# Altium schematic symbol library Schlib_jp.SchLib: 203 symbols (part 4 of 6)
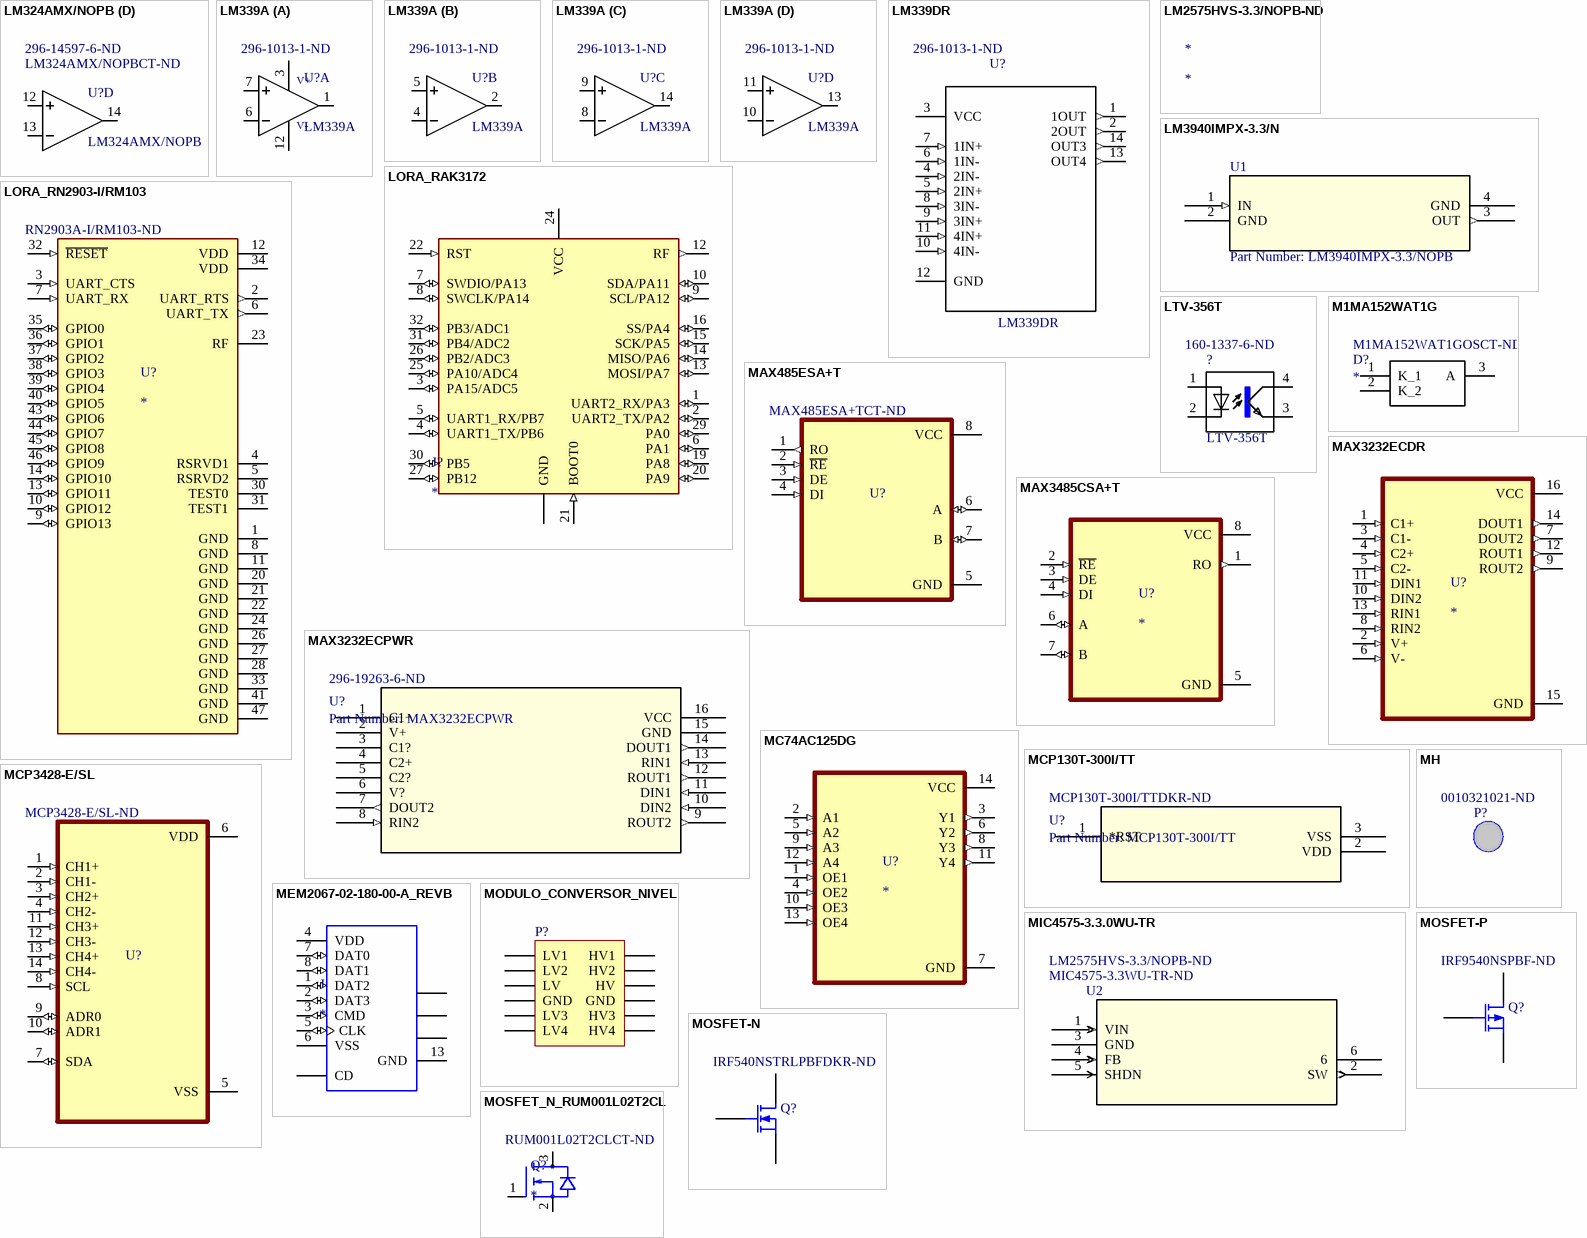
[diagram p11: symbols LM324AMX/NOPB to MOSFET_N_RUM001L02T2CL]

## LM324AMX/NOPB
designator U?  Supplier Part Number 1: LM324AMX/NOPBCT-ND  Supplier Part Number 2: 296-14597-6-ND
Low Power Quad Operational Amplifier 14-SOIC 0 to 70; Manufacturer: TI National Semiconductor; MF: Texas Instruments; Min Dual Supply Voltage: 1.5V; Slew Rate: 0.5V/µs; Min Supply Voltage: 3V; Max Supply Voltage: 32V; Max Dual Supply Voltage: 16V; Voltage Gain: 100dB; Max Power Dissipation: 800mW; Unity Gain Bandwidth Product: 1MHz; Common Mode Rejection Ratio: 65dB; Number of Channels: 4; Output Current: 40mA; Input Offset Voltage (Vos): 3mV; Input Bias Current: 100nA; Max Supply Current: 1.2mA; Nominal Supply Current: 1.5mA; Operating Supply Current: 1.4mA; Output Current per Channel: 60mA; Digi-Key_Purchase_URL: https://www.digikey.com/product-detail/en/texas-instruments/LM324AMX-NOPB/LM324AMX-NOPBCT-ND/1010531?utm_source=snapeda&utm_medium=aggregator&utm_campaign=symbol; Digi-Key_Part_Number: LM324AMX/NOPBCT-ND; MP: LM324AMX/NOPB; Package: SOIC-14 Texas Instruments; SnapEDA_Link: https://www.snapeda.com/parts/LM324AMX/NOPB/Texas%20Instruments/view-part/?ref=snap; Value: *; Supplier 1: Digi-Key; Manufacturer Part Number: LM324AMX/NOPB; Stock 1: 86609; Pricing 1: 1=1.05, 10=0.936, 100=0.7297, 500=0.60276, 1000=0.47586 (USD); Mount: Surface Mount; Case/Package: SOIC; Number of Pins: 14; Min Operating Temperature: 0°C; Max Operating Temperature: 70°C; Packaging: Tape and Reel; Operating Supply Voltage: 16V; Dual Supply Voltage: 3V; Bandwidth: 1MHz; Gain Bandwidth Product: 1MHz; Number of Amplifiers: 4; Power Supply Rejection Ratio (PSRR): 65dB; Number of Elements: 4; Power Dissipation: 800mW; Package Quantity: 2500; Number of Circuits: 4; Length: 8.64mm; Height: 1.45mm; Width: 3.91mm; Radiation Hardening: No; REACH SVHC: No SVHC; Lead Free: Lead Free; ComponentLink1URL: http://www.jameco.com/Jameco/Products/ProdDS/1267647.pdf?src-supplier=Jameco; ComponentLink1Description: http://www.jameco.com/Jameco/Products/ProdDS/1267647.pdf?src-supplier=Jameco; ComponentLink2URL: http://www.ti.com/lit/ds/symlink/lm124-n.pdf?src-supplier=Avnet; ComponentLink2Description: http://www.ti.com/lit/ds/symlink/lm124-n.pdf?src-supplier=Avnet; ComponentLink3URL: http://www.ti.com/lit/ds/symlink/lm124-n.pdf?src-supplier=Digi-Key; ComponentLink3Description: http://www.ti.com/lit/ds/symlink/lm124-n.pdf?src-supplier=Digi-Key; ComponentLink4URL: http://www.farnell.com/datasheets/2001690.pdf?src-supplier=Farnell; ComponentLink4Description: http://www.farnell.com/datasheets/2001690.pdf?src-supplier=Farnell; Supplier 2: Digi-Key; Stock 2: 13590; Pricing 2: 1=0.4, 10=0.302, 100=0.1483, 500=0.12854, 1000=0.09888 (USD); Contact Plating: Gold; ComponentLink5URL: http://www.ti.com/general/docs/lit/getliterature.tsp?genericPartNumber=LM124&&fileType=pdf&src-supplier=Avnet; ComponentLink5Description: http://www.ti.com/general/docs/lit/getliterature.tsp?genericPartNumber=LM124&&fileType=pdf&src-supplier=Avnet; ComponentLink6URL: http://www.farnell.com/datasheets/1840878.pdf?src-supplier=Element14; ComponentLink6Description: http://www.farnell.com/datasheets/1840878.pdf?src-supplier=Element14; ComponentLink7URL: http://www.farnell.com/datasheets/1877076.pdf?src-supplier=Element14; ComponentLink7Description: http://www.farnell.com/datasheets/1877076.pdf?src-supplier=Element14; ComponentLink8URL: http://www.ti.com/lit/ds/symlink/lm224.pdf?src-supplier=Digi-Key; ComponentLink8Description: http://www.ti.com/lit/ds/symlink/lm224.pdf?src-supplier=Digi-Key; ComponentLink9URL: http://www.jameco.com/Jameco/Products/ProdDS/902590.pdf?src-supplier=Jameco; ComponentLink9Description: http://www.jameco.com/Jameco/Products/ProdDS/902590.pdf?src-supplier=Jameco; ComponentLink10URL: http://www.farnell.com/datasheets/1768103.pdf?src-supplier=Farnell; ComponentLink10Description: http://www.farnell.com/datasheets/1768103.pdf?src-supplier=Farnell
footprint SOIC127P600X175-14N
part A pins: 1, 2, 3, 4 (power), 11 (power)
part B pins: 5, 6, 7
part C pins: 8, 9, 10
part D pins: 12, 13, 14
part A text: V+; V-

## LM339A
designator U?  Supplier Part Number 1: 296-1013-1-ND
Low Power Quad Operational Amplifier 14-SOIC 0 to 70; Manufacturer Part Number: LM339DR; MF: Texas Instruments; MP: LM324AMX/NOPB; Voltage Gain: 106.02dB; Min Supply Voltage: 2V; Max Supply Voltage: 30V; Min Dual Supply Voltage: 1V; Max Dual Supply Voltage: 15V; Nominal Supply Current: 2mA; Number of Elements: 4; Max Supply Current: 500uA; Input Bias Current: 250nA; Output Current per Channel: 6mA; Input Offset Voltage (Vos): 5mV; Response Time: 1.3us; Output Current: 20mA; Quiescent Current: 2.5mA; Output Type: TTL; Digi-Key_Purchase_URL: https://www.digikey.com/product-detail/en/texas-instruments/LM324AMX-NOPB/LM324AMX-NOPBCT-ND/1010531?utm_source=snapeda&utm_medium=aggregator&utm_campaign=symbol; Digi-Key_Part_Number: LM324AMX/NOPBCT-ND; Package: SOIC-14 Texas Instruments; SnapEDA_Link: https://www.snapeda.com/parts/LM324AMX/NOPB/Texas%20Instruments/view-part/?ref=snap; Value: *; Supplier 1: Digi-Key; Manufacturer: Texas Instruments; Stock 1: 19352; Pricing 1: 1=0.39, 10=0.295, 100=0.1452, 500=0.12586, 1000=0.09682 (USD); Mount: Surface Mount; Case/Package: SOIC; Number of Pins: 14; Weight: 0.004318oz; Contact Plating: Gold; Min Operating Temperature: 0°C; Max Operating Temperature: 70°C; Packaging: Tape and Reel; Package Quantity: 2500; Number of Channels: 4; Max Input Current: 250nA; Radiation Hardening: No; Lead Free: Lead Free; REACH SVHC: No SVHC; ComponentLink1URL: http://www.ti.com/lit/ds/symlink/lm139a.pdf?src-supplier=Avnet; ComponentLink1Description: http://www.ti.com/lit/ds/symlink/lm139a.pdf?src-supplier=Avnet; ComponentLink2URL: https://www.verical.com/server-webapp/html/getDatasheet?partID=242797&src-supplier=Verical; ComponentLink2Description: https://www.verical.com/server-webapp/html/getDatasheet?partID=242797&src-supplier=Verical; ComponentLink3URL: http://www.farnell.com/datasheets/1874704.pdf?src-supplier=Element14; ComponentLink3Description: http://www.farnell.com/datasheets/1874704.pdf?src-supplier=Element14; ComponentLink4URL: http://www.ti.com/general/docs/lit/getliterature.tsp?genericPartNumber=LM339&&fileType=pdf&src-supplier=Element14; ComponentLink4Description: http://www.ti.com/general/docs/lit/getliterature.tsp?genericPartNumber=LM339&&fileType=pdf&src-supplier=Element14; ComponentLink5URL: http://www.ti.com/lit/ds/symlink/lm139a.pdf?src-supplier=Digi-Key; ComponentLink5Description: http://www.ti.com/lit/ds/symlink/lm139a.pdf?src-supplier=Digi-Key; ComponentLink6URL: http://www.jameco.com/Jameco/Products/ProdDS/902741.pdf?src-supplier=Jameco; ComponentLink6Description: http://www.jameco.com/Jameco/Products/ProdDS/902741.pdf?src-supplier=Jameco; ComponentLink7URL: http://www.ti.com/general/docs/lit/getliterature.tsp?genericPartNumber=LM339&amp;&amp;fileType=pdf&src-supplier=Avnet+Asia; ComponentLink7Description: http://www.ti.com/general/docs/lit/getliterature.tsp?genericPartNumber=LM339&amp;&amp;fileType=pdf&src-supplier=Avnet+Asia; ComponentLink8URL: http://www.produktinfo.conrad.com/datenblaetter/1000000-1099999/001072944-da-01-en-IC_QUAD_DIFF_COMP_LM339DR_SOIC_14_TID.pdf?src-supplier=Conrad; ComponentLink8Description: http://www.produktinfo.conrad.com/datenblaetter/1000000-1099999/001072944-da-01-en-IC_QUAD_DIFF_COMP_LM339DR_SOIC_14_TID.pdf?src-supplier=Conrad
footprint SOIC127P600X175-14N
part A pins: 1, 3 (power), 6, 7, 12 (power)
part B pins: 2, 4, 5
part C pins: 8, 9, 14
part D pins: 10, 11, 13
part A text: V+; V-

## LM339DR
designator U?  Supplier Part Number 1: 296-1013-1-ND
Comparator; differential; 2Ã·36VDC; Channels: 4; SMD; SO1; MF: Texas Instruments; Voltage Gain: 106.02dB; Min Supply Voltage: 2V; Max Supply Voltage: 30V; Min Dual Supply Voltage: 1V; Max Dual Supply Voltage: 15V; Nominal Supply Current: 2mA; Number of Elements: 4; Max Supply Current: 500uA; Input Bias Current: 250nA; Output Current per Channel: 6mA; Input Offset Voltage (Vos): 5mV; Response Time: 1.3us; Output Current: 20mA; Quiescent Current: 2.5mA; Output Type: TTL; Digi-Key_Part_Number: LM339DRRS-ND; Digi-Key_Purchase_URL: https://www.digikey.com/product-detail/en/rohm-semiconductor/LM339DR/LM339DRRS-ND/2336957?utm_source=snapeda&utm_medium=aggregator&utm_campaign=symbol; Package: SOIC-14 Texas Instruments; MP: LM339DR; SnapEDA_Link: https://www.snapeda.com/parts/LM339DR/Texas%20Instruments/view-part/?ref=snap; Value: *; Supplier 1: Digi-Key; Manufacturer: Texas Instruments; Manufacturer Part Number: LM339DR; Stock 1: 19352; Pricing 1: 1=0.39, 10=0.295, 100=0.1452, 500=0.12586, 1000=0.09682 (USD); Mount: Surface Mount; Case/Package: SOIC; Number of Pins: 14; Weight: 0.004318oz; Contact Plating: Gold; Min Operating Temperature: 0°C; Max Operating Temperature: 70°C; Packaging: Tape and Reel; Package Quantity: 2500; Number of Channels: 4; Max Input Current: 250nA; Radiation Hardening: No; Lead Free: Lead Free; REACH SVHC: No SVHC; ComponentLink1URL: http://www.ti.com/lit/ds/symlink/lm139a.pdf?src-supplier=Avnet; ComponentLink1Description: http://www.ti.com/lit/ds/symlink/lm139a.pdf?src-supplier=Avnet; ComponentLink2URL: https://www.verical.com/server-webapp/html/getDatasheet?partID=242797&src-supplier=Verical; ComponentLink2Description: https://www.verical.com/server-webapp/html/getDatasheet?partID=242797&src-supplier=Verical; ComponentLink3URL: http://www.farnell.com/datasheets/1874704.pdf?src-supplier=Element14; ComponentLink3Description: http://www.farnell.com/datasheets/1874704.pdf?src-supplier=Element14; ComponentLink4URL: http://www.ti.com/general/docs/lit/getliterature.tsp?genericPartNumber=LM339&&fileType=pdf&src-supplier=Element14; ComponentLink4Description: http://www.ti.com/general/docs/lit/getliterature.tsp?genericPartNumber=LM339&&fileType=pdf&src-supplier=Element14; ComponentLink5URL: http://www.ti.com/lit/ds/symlink/lm139a.pdf?src-supplier=Digi-Key; ComponentLink5Description: http://www.ti.com/lit/ds/symlink/lm139a.pdf?src-supplier=Digi-Key; ComponentLink6URL: http://www.jameco.com/Jameco/Products/ProdDS/902741.pdf?src-supplier=Jameco; ComponentLink6Description: http://www.jameco.com/Jameco/Products/ProdDS/902741.pdf?src-supplier=Jameco; ComponentLink7URL: http://www.ti.com/general/docs/lit/getliterature.tsp?genericPartNumber=LM339&amp;&amp;fileType=pdf&src-supplier=Avnet+Asia; ComponentLink7Description: http://www.ti.com/general/docs/lit/getliterature.tsp?genericPartNumber=LM339&amp;&amp;fileType=pdf&src-supplier=Avnet+Asia; ComponentLink8URL: http://www.produktinfo.conrad.com/datenblaetter/1000000-1099999/001072944-da-01-en-IC_QUAD_DIFF_COMP_LM339DR_SOIC_14_TID.pdf?src-supplier=Conrad; ComponentLink8Description: http://www.produktinfo.conrad.com/datenblaetter/1000000-1099999/001072944-da-01-en-IC_QUAD_DIFF_COMP_LM339DR_SOIC_14_TID.pdf?src-supplier=Conrad
footprint SOIC127P600X175-14N
pins: 1 1OUT (out), 2 2OUT (out), 3 VCC (power), 4 2IN- (in), 5 2IN+ (in), 6 1IN- (in), 7 1IN+ (in), 8 3IN- (in), 9 3IN+ (in), 10 4IN- (in), 11 4IN+ (in), 12 GND, 13 OUT4 (out), 14 OUT3 (out)

## LM2575HVS-3.3/NOPB-ND
designator *

## LM3940IMPX-3.3/N
designator U1, comment Part Number: LM3940IMPX-3.3/NOPB
No Description Available; Vendor: Texas Instruments; Built_By: EMA_UL_Team; Manufacturer_Part_Number: LM3940IMPX-3.3/NOPB; Copyright: Copyright (C) 2018 Accelerated Designs. All rights reserved; RefDes: RefDes; Type: DEV; Value: Value
footprint MP04A
footprint MP04A-M
pins: 1 IN (in), 2 GND, 3 OUT (out), 4 GND

## LORA_RAK3172
designator J?
RAK3172 is a low-power long-range transceiver module based on the STM32WLE5CC chip. It provides an easy-to-use, small-size, low-power solution for long range wireless data applications; Value: RAK3172-9-SM-NI; MF: Shenzhen RAKwireless Technology Co.,Ltd.; SnapEDA_Link: https://www.snapeda.com/parts/RAK3172/Shenzhen+RAKwireless+Technology+Co.%252CLtd./view-part/?ref=snap; Availability: Not in stock; Price: None; Package: Package; Check_prices: https://www.snapeda.com/parts/RAK3172/Shenzhen+RAKwireless+Technology+Co.%252CLtd./view-part/?ref=eda; MP: RAK3172; Link: https://www.digikey.com/es/products/detail/rakwireless-technology-limited/RAK3172-9-SM-NI/17138034; Digi-Key_Part_Number: 4735-RAK3172-9-SM-NICT-ND; ComponentLink1Description: MODULE FOR LORAWAN RAK3172; ComponentLink1URL: https://www.digikey.com/es/products/detail/rakwireless-technology-limited/RAK3172-9-SM-NI/17138034?s=N4IgTCBcDaICwHYDMBWAtAJQIIGkkEYEw0BONAZQFk0A5ASQGEAVWgERAF0BfIA
footprint RAK3172
pins: 1 UART2_RX/PA3 (io), 2 UART2_TX/PA2 (io), 3 PA15/ADC5 (io), 4 UART1_TX/PB6 (io), 5 UART1_RX/PB7 (io), 6 PA1 (io), 7 SWDIO/PA13 (io), 8 SWCLK/PA14 (io), 9 SCL/PA12 (io), 10 SDA/PA11 (io), 11 GND (power), 12 RF (out), 13 MOSI/PA7 (io), 14 MISO/PA6 (io), 15 SCK/PA5 (io), 16 SS/PA4 (io), 17 GND (power), 18 GND (power), 19 PA8 (io), 20 PA9 (io), 21 BOOT0 (in), 22 RST (in), 23 GND (power), 24 VCC (power), 25 PA10/ADC4 (io), 26 PB2/ADC3 (io), 27 PB12 (io), 28 GND (power), 29 PA0 (io), 30 PB5 (io), 31 PB4/ADC2 (io), 32 PB3/ADC1 (io)

## LORA_RN2903-I/RM103
designator U?  Supplier Part Number 1: RN2903A-I/RM103-ND
ISM General < 1GHz LoRa™ Módulos de transceptor RF 902MHz ~ 928MHz Antena no incluida, Castellation Montaje en superficie; MF: Microchip; MP: RN2903-I/RM095; Availability: Unavailable; Price: None; Package: Module Microchip; Value: *; SnapEDA_Link: https://www.snapeda.com/parts/RN2903-I/RM095/Microchip/view-part/465037/?ref=snap; Supplier 1: Digi-Key; Link: https://www.digikey.com/es/products/detail/RN2903A-I-RM103/RN2903A-I-RM103-ND/8019733?utm_campaign=buynow&utm_medium=aggregator&curr=usd&utm_source=octopart; Digi_Key_Part_Number: RN2903A-I/RM103-ND; ComponentLink1Description: RF TXRX MOD ISM < 1GHZ CAST SMD; ComponentLink1URL: https://www.digikey.com/es/products/detail/RN2903A-I-RM103/RN2903A-I-RM103-ND/8019733?utm_campaign=buynow&utm_medium=aggregator&curr=usd&utm_source=octopart
footprint XCVR_RN2903-I/RM103
pins: 1 GND (power), 2 UART_RTS (out), 3 UART_CTS (in), 4 RSRVD1, 5 RSRVD2, 6 UART_TX (out), 7 UART_RX (in), 8 GND (power), 9 GPIO13 (io), 10 GPIO12 (io), 11 GND (power), 12 VDD (power), 13 GPIO11 (io), 14 GPIO10 (io), 20 GND (power), 21 GND (power), 22 GND (power), 23 RF, 24 GND (power), 26 GND (power), 27 GND (power), 28 GND (power), 30 TEST0, 31 TEST1, 32 ~{RESET} (in), 33 GND (power), 34 VDD (power), 35 GPIO0 (io), 36 GPIO1 (io), 37 GPIO2 (io), 38 GPIO3 (io), 39 GPIO4 (io), 40 GPIO5 (io), 41 GND (power), 43 GPIO6 (io), 44 GPIO7 (io), 45 GPIO8 (io), 46 GPIO9 (io), 47 GND (power)

## LTV-356T
designator ?  Supplier Part Number 1: 160-1337-6-ND
LTV Series Single Channel 80 V 3750 Vrms Transistor Output Optocoupler SMT DIP-4; Manufacturer: Vishay Lite-On; MF: Lite-On Inc.; Rise Time: 18000ns; Number of Channels: 1; Reverse Breakdown Voltage: 6V; Forward Voltage: 1.4V; Forward Current: 50mA; Max Power Dissipation: 170mW; Collector Emitter Voltage (VCEO): 80V; Collector Emitter Saturation Voltage: 200mV; Isolation Voltage: 3.75kV; Current Transfer Ratio: 600%; Package: SOP-4 Lite-On Inc.; MP: LTV-356T; SnapEDA_Link: https://www.snapeda.com/parts/LTV-356T/Lite-On%20Inc./view-part/?ref=snap; Price: None; Availability: Unavailable; Value: *; Supplier 1: Digi-Key; Manufacturer Part Number: LTV-356T; Stock 1: 158683; Pricing 1: 1=0.54, 10=0.386, 100=0.252, 500=0.18112, 1000=0.14175 (USD); Mount: Surface Mount; Case/Package: SMD/SMT; Number of Pins: 4; Min Operating Temperature: -55°C; Max Operating Temperature: 110°C; Packaging: Tape and Reel; Package Quantity: 750; Max Collector Current: 50mA; Max Output Voltage: 80V; Output Current per Channel: 50mA; Max Input Current: 50mA; Fall Time: 18000ns; Number of Elements: 1; Power Dissipation: 170mW; Number of Circuits: 1; Output Voltage: 80V; Length: 3.6mm; Height: 2mm; Width: 4.4mm; Radiation Hardening: No; Lead Free: Lead Free; ComponentLink1URL: http://uk.rs-online.com/webdocs/0de6/0900766b80de6af0.pdf?src-supplier=RSComponents; ComponentLink1Description: http://uk.rs-online.com/webdocs/0de6/0900766b80de6af0.pdf?src-supplier=RSComponents; ComponentLink2URL: http://www.mouser.com/ds/2/239/LTV-356T%20Series-1308-301539.pdf?src-supplier=Mouser; ComponentLink2Description: http://www.mouser.com/ds/2/239/LTV-356T%20Series-1308-301539.pdf?src-supplier=Mouser; ComponentLink3URL: http://optoelectronics.liteon.com/upload/download/DS70-2001-010/LTV-356T%20series%20201610.pdf?src-supplier=Digi-Key; ComponentLink3Description: http://optoelectronics.liteon.com/upload/download/DS70-2001-010/LTV-356T%20series%20201610.pdf?src-supplier=Digi-Key; ComponentLink4URL: http://www1.futureelectronics.com/doc/LITE-ON/LTV-356T.pdf?src-supplier=Future+Electronics; ComponentLink4Description: http://www1.futureelectronics.com/doc/LITE-ON/LTV-356T.pdf?src-supplier=Future+Electronics; ComponentLink5URL: https://www.verical.com/server-webapp/html/getDatasheet?partID=214494&src-supplier=Verical; ComponentLink5Description: https://www.verical.com/server-webapp/html/getDatasheet?partID=214494&src-supplier=Verical
footprint MINI-FLAT-4
pins: 1, 2, 3, 4

## M1MA152WAT1G
designator D?  Supplier Part Number 1: M1MA152WAT1GOSCT-ND
Diode; Manufacturer_Name: ON Semiconductor; Manufacturer_Part_Number: M1MA152WAT1G; Datasheet Link: http://www.onsemi.com/pub/Collateral/M1MA151WAT1-D.PDF; Height: 1.3mm; Mouser Part Number: 863-M1MA152WAT1G; Mouser Price/Stock: https://www.mouser.com/Search/Refine.aspx?Keyword=863-M1MA152WAT1G; Arrow Part Number: M1MA152WAT1G; Arrow Price/Stock: https://www.arrow.com/en/products/m1ma152wat1g/on-semiconductor; Supplier 1: Digi-Key
footprint SOT95P275X130-3N
footprint SOT95P275X130-3N
pins: 1 K_1, 2 K_2, 3 A

## MAX485ESA+T
designator U?, comment MAX485ESA+TCT-ND
1/1 Transceiver Half RS422, RS485 8-SOIC; MF: Maxim Integrated; MP: MAX485ESA; SnapEDA_Link: https://www.snapeda.com/parts/MAX485ESA/Maxim+Integrated/view-part/?ref=snap; Purchase-URL: https://pricing.snapeda.com/search/part/MAX485ESA/?ref=eda; Value: *; Package: SOIC-8 Maxim; Price: None; Availability: In Stock; Check_prices: https://www.snapeda.com/parts/MAX485ESA/Maxim+Integrated/view-part/?ref=eda; Supplier 1: Digi-Key; Supplier Part Number 1: MAX485ESA+TCT-ND
footprint SOIC127P600X175-8N
pins: 1 RO (out), 2 ~{RE} (in), 3 DE (in), 4 DI (in), 5 GND (power), 6 A (io), 7 B (io), 8 VCC (power)

## MAX3232ECDR
designator U?
3-V to 5.5-V multichannel RS-232 line driver and receiver with 15-kV IEC ESD protection 16-SOIC 0 to 70; MP: MAX3232ECD; Value: MAX3232ECDR; MF: Texas Instruments; Price: None; Package: SOIC-16 Texas Instruments; Check_prices: https://www.snapeda.com/parts/MAX3232ECD/Texas%20Instruments/view-part/356768/?ref=eda; Availability: Good; Purchase-URL: https://pricing.snapeda.com/search/part/MAX3232ECD/?ref=eda; SnapEDA_Link: https://www.snapeda.com/parts/MAX3232ECD/Texas%20Instruments/view-part/356768/?ref=snap; Supplier 1: Digi-Key; ComponentLink1Description: MAX3232ECDR; ComponentLink1URL: https://www.digikey.com/es/products/detail/texas-instruments/MAX3232ECDR/1120543; Digi-Key_Part_Number: 296-19851-1-ND; Link: https://www.digikey.com/es/products/detail/texas-instruments/MAX3232ECDR/1120543; Supplier Part Number 1: 296-26154-5-ND
footprint SOIC127P600X175-16N
pins: 1 C1+ (in), 2 V+ (in), 3 C1- (in), 4 C2+ (in), 5 C2- (in), 6 V- (in), 7 DOUT2 (out), 8 RIN2 (in), 9 ROUT2 (out), 10 DIN2 (in), 11 DIN1 (in), 12 ROUT1 (out), 13 RIN1 (in), 14 DOUT1 (out), 15 GND (power), 16 VCC (power)

## MAX3232ECPWR
designator U?, comment Part Number: MAX3232ECPWR  Supplier Part Number 1: 296-19263-6-ND
No Description Available; Vendor: Texas Instruments; Built_By: EMA_UL_Team; Number of Receivers: 2; Data Rate: 250Kbps; Max Supply Voltage: 5.5V; Min Supply Voltage: 3V; Nominal Supply Current: 1mA; Logic Function: Transceiver,Receiver; Number of Transceivers: 1; Simplex/Duplex: Full Duplex; ESD Protection: Yes; Supply Type: Single; Operating Supply Voltage: 5V; Manufacturer_Part_Number: MAX3232ECPWR; Copyright: Copyright (C) 2018 Accelerated Designs. All rights reserved; RefDes: RefDes; Type: DEV; Value: Value; Supplier 1: Digi-Key; Manufacturer: Texas Instruments; Manufacturer Part Number: MAX3232ECPWR; Stock 1: 12028; Pricing 1: 1=1.89, 10=1.695, 100=1.2793, 500=1.08738, 1000=0.8635 (USD); Mount: Surface Mount; Case/Package: TSSOP; Number of Pins: 16; Weight: 0.002183oz; Contact Plating: Gold; Min Operating Temperature: -40°C; Max Operating Temperature: 85°C; Packaging: Tape and Reel; Number of Transmitters: 2; Package Quantity: 1; Number of Drivers: 2; Operating Supply Current: 1mA; Max Supply Current: 1mA; Length: 5mm; Height: 1mm; Width: 4.4mm; Radiation Hardening: No; REACH SVHC: No SVHC; Lead Free: Lead Free; ComponentLink1URL: http://www.ti.com/lit/ds/symlink/max3232e.pdf?src-supplier=Digi-Key; ComponentLink1Description: http://www.ti.com/lit/ds/symlink/max3232e.pdf?src-supplier=Digi-Key; ComponentLink2URL: http://www.farnell.com/datasheets/1863621.pdf?src-supplier=Element14; ComponentLink2Description: http://www.farnell.com/datasheets/1863621.pdf?src-supplier=Element14; ComponentLink3URL: http://www.farnell.com/datasheets/1962287.pdf?src-supplier=Element14; ComponentLink3Description: http://www.farnell.com/datasheets/1962287.pdf?src-supplier=Element14; ComponentLink4URL: http://www.ti.com/general/docs/lit/getliterature.tsp?genericPartNumber=MAX3232E&fileType=pdf&src-supplier=Newark; ComponentLink4Description: http://www.ti.com/general/docs/lit/getliterature.tsp?genericPartNumber=MAX3232E&fileType=pdf&src-supplier=Newark
footprint PW16
footprint RS232PW16-M
pins: 1 C1+, 2 V+, 3 C1? (power), 4 C2+, 5 C2?, 6 V? (power), 7 DOUT2 (out), 8 RIN2 (in), 9 ROUT2 (out), 10 DIN2 (in), 11 DIN1 (in), 12 ROUT1 (out), 13 RIN1 (in), 14 DOUT1 (out), 15 GND (power), 16 VCC (power)

## MAX3485CSA+T
designator U?
1/1 Transceiver Half RS422, RS485 8-SOIC; MF: Maxim Integrated; MP: MAX3485CSA+T; Value: *; Package: SOIC-8 Maxim; Digi-Key_Part_Number: MAX3485CSA+CT-ND; Digi-Key_Purchase_URL: https://www.digikey.com/product-detail/en/maxim-integrated/MAX3485CSA-T/MAX3485CSA-CT-ND/5405739?utm_source=snapeda&utm_medium=aggregator&utm_campaign=symbol; SnapEDA_Link: https://www.snapeda.com/parts/MAX3485CSA+T/Maxim%20Integrated/view-part/648590/?ref=snap; ComponentLink1Description: IC TRANSCEIVER HALF 1/1 8SOIC; ComponentLink1URL: https://www.digikey.com/es/products/detail/analog-devices-inc-maxim-integrated/MAX3485CSA-T/1703654; Link: https://www.digikey.com/es/products/detail/analog-devices-inc-maxim-integrated/MAX3485CSA-T/1703654
footprint SOIC127P600X175-8N
pins: 1 RO (out), 2 ~{RE} (in), 3 DE (in), 4 DI (in), 5 GND (power), 6 A (io), 7 B (io), 8 VCC (power)

## MC74AC125DG
designator U?
Buffer, Non-Inverting 4 Element 1 Bit per Element 3-State Output 14-SOIC; Value: MC74AC125DG; MF: ON Semiconductor; MP: MC74HC125ADG; Availability: Good; Price: None; Purchase-URL: https://pricing.snapeda.com/search/part/MC74HC125ADG/?ref=eda; Package: SOIC-14 ON Semiconductor; SnapEDA_Link: https://www.snapeda.com/parts/MC74HC125ADG/ON%20Semiconductor/view-part/358662/?ref=snap; ComponentLink1Description: MC74AC125DG; ComponentLink1URL: https://www.digikey.com/es/products/detail/MC74AC125DG/MC74AC125DGOS-ND/1479360?utm_campaign=buynow&utm_medium=aggregator&curr=usd&utm_source=octopart; Link: https://www.digikey.com/es/products/detail/MC74AC125DG/MC74AC125DGOS-ND/1479360?utm_campaign=buynow&utm_medium=aggregator&curr=usd&utm_source=octopart; Digi-Key_Part_Number: MC74AC125DGOS-ND
footprint SOIC127P600X175-14N
pins: 1 OE1 (in), 2 A1 (in), 3 Y1 (out), 4 OE2 (in), 5 A2 (in), 6 Y2 (out), 7 GND (power), 8 Y3 (out), 9 A3 (in), 10 OE3 (in), 11 Y4 (out), 12 A4 (in), 13 OE4 (in), 14 VCC (power)

## MCP130T-300I/TT
designator U?, comment Part Number: MCP130T-300I/TT  Supplier Part Number 1: MCP130T-300I/TTDKR-ND
Resets microcontroller during power lossble; Vendor: Microchip; Built_By: EMA_Jessica; Min Supply Voltage: 1V; Max Supply Voltage: 5.5V; Nominal Supply Current: 45uA; Number of Voltages Monitored: 1; Overvoltage Threshold: 3V; Undervoltage Threshold: 2.85V; Operating Supply Current: 60uA; Reset: Active Low; Reset Timeout: 150ms; Accuracy: -5%; Watchdog Timer: No; Manufacturer_Part_Number: MCP130T-300I/TT; Copyright: Copyright (C) 2018 Accelerated Designs. All rights reserved; RefDes: RefDes; Type: DEV; Value: Value; Supplier 1: Digi-Key; Manufacturer: Microchip; Manufacturer Part Number: MCP130T-300I/TT; Stock 1: 10211; Pricing 1: 1=0.45, 25=0.37, 100=0.34 (USD); Mount: Surface Mount; Case/Package: SOT-23; Number of Pins: 3; Min Operating Temperature: -40°C; Max Operating Temperature: 85°C; Packaging: Tape and Reel; Package Quantity: 1; Threshold Voltage: 3V; Number of Elements: 1; Max Supply Current: 60uA; Termination: SMD/SMT; Max Reset Threshold Voltage: 3V; Min Reset Threshold Voltage: 2.85V; Quiescent Current: 45uA; Voltage: 3V; Length: 2.9mm; Height: 0.95mm; Width: 1.3mm; Radiation Hardening: No; REACH SVHC: No SVHC; Lead Free: Lead Free; ComponentLink1URL: https://www.alliedelec.com/m/d/4f6df3a49527f5f24303fd42bf5f8804.pdf?src-supplier=Allied+Electronics; ComponentLink1Description: https://www.alliedelec.com/m/d/4f6df3a49527f5f24303fd42bf5f8804.pdf?src-supplier=Allied+Electronics; ComponentLink2URL: http://www.farnell.com/datasheets/11603.pdf?src-supplier=Element14; ComponentLink2Description: http://www.farnell.com/datasheets/11603.pdf?src-supplier=Element14; ComponentLink3URL: http://www.microchip.com/mymicrochip/filehandler.aspx?ddocname=en011325&src-supplier=Digi-Key; ComponentLink3Description: http://www.microchip.com/mymicrochip/filehandler.aspx?ddocname=en011325&src-supplier=Digi-Key; ComponentLink4URL: http://ww1.microchip.com/downloads/jp/DeviceDoc/11184d.pdf?src-supplier=Avnet+Europe; ComponentLink4Description: http://ww1.microchip.com/downloads/jp/DeviceDoc/11184d.pdf?src-supplier=Avnet+Europe; ComponentLink5URL: http://www.microchip.com/mymicrochip/filehandler.aspx?ddocname=en023833&src-supplier=Digi-Key; ComponentLink5Description: http://www.microchip.com/mymicrochip/filehandler.aspx?ddocname=en023833&src-supplier=Digi-Key; ComponentLink6URL: http://ww1.microchip.com/downloads/jp/DeviceDoc/11184d.pdf?src-supplier=Avnet; ComponentLink6Description: http://ww1.microchip.com/downloads/jp/DeviceDoc/11184d.pdf?src-supplier=Avnet; ComponentLink7URL: https://www.distrelec.biz/Web/Downloads/_t/ds/mcp120_30_eng_tds.pdf?mime=application%2Fpdf&src-supplier=Distrelec; ComponentLink7Description: https://www.distrelec.biz/Web/Downloads/_t/ds/mcp120_30_eng_tds.pdf?mime=application%2Fpdf&src-supplier=Distrelec; ComponentLink8URL: http://datasheet.iiic.cc/microchip_technology/MCP130T-300I_TT.pdf?src-supplier=IIIC; ComponentLink8Description: http://datasheet.iiic.cc/microchip_technology/MCP130T-300I_TT.pdf?src-supplier=IIIC
footprint SOT-23_MC-M
pins: 1 *RST, 2 VDD, 3 VSS

## MCP3428-E/SL
designator U?, comment MCP3428-E/SL-ND
16 Bit Analog to Digital Converter 4 Input 1 Sigma-Delta 14-SOIC; MF: Microchip; Package: SOIC-14 Microchip; SnapEDA_Link: https://www.snapeda.com/parts/MCP3428-E/SL/Microchip/view-part/13249/?ref=snap; MP: MCP3428-E/SL; Price: None; Availability: Unavailable; Value: MCP3428-E/SL; Supplier 1: Digi-Key; Link: https://www.digikey.com/es/products/detail/MCP3428-E-SL/MCP3428-E-SL-ND/2179226?utm_campaign=buynow&utm_medium=aggregator&curr=usd&utm_source=octopart; Digi_Key_Part_Number: MCP3428-E/SL-ND; ComponentLink1Description: IC ADC 16BIT SIGMA-DELTA 14SOIC; ComponentLink1URL: https://www.digikey.com/es/products/detail/microchip-technology/mcp3428-e-sl/2179226; Supplier Part Number 1: MCP3428-E/SL-ND
footprint SOIC127P600X175-14N
pins: 1 CH1+ (in), 2 CH1- (in), 3 CH2+ (in), 4 CH2- (in), 5 VSS (power), 6 VDD (power), 7 SDA (io), 8 SCL (in), 9 ADR0 (io), 10 ADR1 (io), 11 CH3+ (in), 12 CH3- (in), 13 CH4+ (in), 14 CH4- (in)

## MEM2067-02-180-00-A_REVB
designator J
8 Position Card Connector microSDâ„¢ Surface Mount, Right Angle Gold; MF: Global Connector Technology; MP: MEM2067-02-180-00-A; Package: None; Value: *; Price: None; SnapEDA_Link: https://www.snapeda.com/parts/MEM2067-02-180-00-A/Global%20Connector%20Technology/view-part/779218/?ref=snap; Availability: Unavailable
footprint 7MSDP-B0-1012 (Micro SD Card Socket)
pins: 1 DAT2 (io), 2 DAT3 (io), 3 CMD (io), 4 VDD (power), 5 CLK (io), 6 VSS (power), 7 DAT0 (io), 8 DAT1 (io), 9 CD, 10 GND, 11 GND, 12 GND, 13 GND

## MH
designator P?  Supplier Part Number 1: 0010321021-ND
Header, 2-Pin; Manufacturer: Molex; Number of Positions: 2; Max Voltage Rating (AC): 250V; Connector Type: Male Pin; Contact Resistance: 10mR; Gender: Male; Pitch: 5.08mm; LatestRevisionDate: 17-Jul-2002; LatestRevisionNote: Re-released for DXP Platform.; Publisher: Altium Limited; Supplier 1: Digi-Key; Manufacturer Part Number: 10-32-1021; Stock 1: 0; Mount: Through Hole; Color: Natural; Housing Color: Natural; Housing Material: Nylon; Contact Plating: Tin; Contact Material: Brass; Min Operating Temperature: -40°C; Max Operating Temperature: 105°C; Number of Rows: 1; Packaging: Bulk; Fastening Type: Friction; Termination: Solder; Orientation: Straight; Number of Contacts: 2; Length: 9.08mm; Depth: 11.4mm; Contact Mating Length: 0.419inch; ComponentLink1URL: http://www.mouser.com/ds/2/276/0010321021_PCB_HEADERS-131538.pdf?src-supplier=Mouser; ComponentLink1Description: http://www.mouser.com/ds/2/276/0010321021_PCB_HEADERS-131538.pdf?src-supplier=Mouser; ComponentLink2URL: http://uk.rs-online.com/webdocs/13c2/0900766b813c2c21.pdf?src-supplier=RSComponents; ComponentLink2Description: http://uk.rs-online.com/webdocs/13c2/0900766b813c2c21.pdf?src-supplier=RSComponents; ComponentLink3URL: https://www.molex.com/pdm_docs/sd/010321021_sd.pdf?src-supplier=Digi-Key; ComponentLink3Description: https://www.molex.com/pdm_docs/sd/010321021_sd.pdf?src-supplier=Digi-Key; ComponentLink4URL: http://www.molex.com/webdocs/datasheets/pdf/en-us/0010321021_PCB_HEADERS.pdf?src-supplier=Avnet+Europe; ComponentLink4Description: http://www.molex.com/webdocs/datasheets/pdf/en-us/0010321021_PCB_HEADERS.pdf?src-supplier=Avnet+Europe; ComponentLink5URL: http://www.molex.com/webdocs/datasheets/pdf/en-us/0010321021_PCB_HEADERS.pdf?src-supplier=Avnet; ComponentLink5Description: http://www.molex.com/webdocs/datasheets/pdf/en-us/0010321021_PCB_HEADERS.pdf?src-supplier=Avnet
footprint MH

## MIC4575-3.3.0WU-TR
designator U2, comment Supplier Part Number 2: LM2575HVS-3.3/NOPB-ND  (hidden comment: MIC4575-3.3WU-TR-ND)
Buck, Buck-Boost Switching Regulator IC Positive Fixed 3.3V 1 Output 1.7A (Switch) TO-263-6, D²Pak (5 Leads + Tab), TO-263BA; Manufacturer_Part_Number: MIC4575-5.0WU-TR; Manufacturer: Microchip Micrel; Vendor: Microchip; Built_By: EMA_Jessica; Output Voltage: 5V; Max Output Current: 1A; Number of Outputs: 1; Efficiency: 77%; Min Input Voltage: 4V; Max Input Voltage: 24V; Switching Frequency: 200kHz; Synchronous Rectifier: No; Copyright: Copyright (C) 2018 Accelerated Designs. All rights reserved; RefDes: RefDes; Type: DEV; Value: Value; Manufacturer Part Number: MIC4575-5.0WU-TR; Mount: Surface Mount; Case/Package: TO-263-5; Min Operating Temperature: -40°C; Max Operating Temperature: 85°C; Packaging: Tape and Reel; Package Quantity: 750; Output Current: 1.7A; Min Output Voltage: 5V; Topology: Buck-Boost; Output Type: Fixed; Output Configuration: Positive; Lead Free: Lead Free; ComponentLink1URL: http://www.micrel.com/_PDF/mic4575.pdf?src-supplier=Future+Electronics; ComponentLink1Description: http://www.micrel.com/_PDF/mic4575.pdf?src-supplier=Future+Electronics; ComponentLink2URL: http://www.micrel.com/_PDF/mic4575.pdf?src-supplier=Digi-Key; ComponentLink2Description: http://www.micrel.com/_PDF/mic4575.pdf?src-supplier=Digi-Key; Supplier 1: Digi-Key; Supplier 2: Digi-Key; Supplier Part Number 1: MIC4575-3.3WU-TR-ND
footprint TO-263-5-M
pins: 1 VIN (in), 2 SW (out), 3 GND (power), 4 FB (in), 5 SHDN, 6

## MODULO_CONVERSOR_NIVEL
designator P?
Header, 6-Pin, Dual row; LatestRevisionDate: 17-Jul-2002; LatestRevisionNote: Re-released for DXP Platform.; Publisher: Altium Limited
footprint HDR2X6_CONVERTER (Arduino Level Convertr)
pins: 1 LV1, 2 LV2, 3 LV, 4 GND, 5 LV3, 6 LV4, 7 HV1, 8 HV2, 9 HV, 10 GND, 11 HV3, 12 HV4

## MOSFET-N
designator Q?  Supplier Part Number 1: IRF540NSTRLPBFDKR-ND
Canal N Montaje en superficie 100V 33 A (Tc) 130W (Tc) D2PAK; Manufacturer: Infineon; Manufacturer Part Number: IRF540NSTRLPBF; Continuous Drain Current (ID): 33A; Gate to Source Voltage (Vgs): 20V; Rds On Max: 44mR; Input Capacitance: 1.96nF; Rise Time: 35ns; Element Configuration: Single; Turn-Off Delay Time: 39ns; Turn-On Delay Time: 11ns; Threshold Voltage: 4V; Published: 8-Jun-2000; LatestRevisionDate: 17-Jul-2002; LatestRevisionNote: Re-released for DXP Platform.; PackageVersion: 1995/1996; PackageReference: E3; Publisher: Altium Limited; PackageDescription: TO, Flat Index; 3 In-Line, Axial Leads; Body Dia. 4.6mm; Lead Dia. 0.5 mm (max); Supplier 1: Digi-Key; Stock 1: 8495; Pricing 1: 1=1.37, 10=1.223, 100=0.8706 (USD); Mount: Surface Mount; Case/Package: D2PAK; Number of Pins: 3; Contact Plating: Tin,Matte; Min Operating Temperature: -55°C; Max Operating Temperature: 175°C; Power Dissipation: 130W; Packaging: Tape and Reel; Drain to Source Voltage (Vdss): 100V; Max Power Dissipation: 130W; Drain to Source Resistance: 44mR; Drain to Source Breakdown Voltage: 100V; Max Dual Supply Voltage: 100V; Length: 0.42inch; Height: 0.19inch; Width: 0.38inch; REACH SVHC: No SVHC; Lead Free: Contains Lead; Halogen Free: Halogen Free
footprint TO263 - mosfet
pins: 1, 2, 3

## MOSFET-P
designator Q?  Supplier Part Number 1: IRF9540NSPBF-ND
P-Channel MOSFET; Manufacturer: International Rectifier; Manufacturer Part Number: IRF9540NSTRLPBF; Continuous Drain Current (ID): 23A; Rise Time: 67ns; Max Power Dissipation: 3.1W; Gate to Source Voltage (Vgs): 20V; Drain to Source Voltage (Vdss): 100V; Turn-On Delay Time: 13ns; Turn-Off Delay Time: 40ns; Number of Elements: 1; Power Dissipation: 3.8W; Drain to Source Resistance: 117mR; Fall Time: 51ns; Drain to Source Breakdown Voltage: -100V; Nominal Vgs: 4V; Input Capacitance: 1.45nF; Element Configuration: Single; Published: 8-Jun-2000; LatestRevisionDate: 17-Jul-2002; LatestRevisionNote: Re-released for DXP Platform.; PackageVersion: 1995/1996; PackageReference: E3; Publisher: Altium Limited; PackageDescription: TO, Flat Index; 3 In-Line, Axial Leads; Body Dia. 4.6mm; Lead Dia. 0.5 mm (max); Supplier 1: Digi-Key; Stock 1: 0; Pricing 1: 1=1.86, 10=1.645, 100=1.3003, 500=1.00838, 1000=0.79609 (USD); Mount: Surface Mount; Case/Package: D2PAK; Number of Pins: 3; Min Operating Temperature: -55°C; Max Operating Temperature: 175°C; Packaging: Tape and Reel; Package Quantity: 1; Rds On Max: 117mR; Dual Supply Voltage: 100V; Termination: SMD/SMT; Threshold Voltage: 4V; On-State Resistance: 117mR; Length: 10.67mm; Height: 4.83mm; Width: 9.65mm; Radiation Hardening: No; REACH SVHC: No SVHC; Lead Free: Lead Free; ComponentLink1URL: https://www.infineon.com/dgdl/irf9540nspbf.pdf?fileId=5546d462533600a401535611d92a1dca&src-supplier=Digi-Key; ComponentLink1Description: https://www.infineon.com/dgdl/irf9540nspbf.pdf?fileId=5546d462533600a401535611d92a1dca&src-supplier=Digi-Key; ComponentLink2URL: http://www.irf.com/product-info/datasheets/data/irf9540ns.pdf?src-supplier=Element14; ComponentLink2Description: http://www.irf.com/product-info/datasheets/data/irf9540ns.pdf?src-supplier=Element14; ComponentLink3URL: http://www.irf.com/product-info/datasheets/data/irf9540nspbf.pdf?src-supplier=Digi-Key; ComponentLink3Description: http://www.irf.com/product-info/datasheets/data/irf9540nspbf.pdf?src-supplier=Digi-Key
footprint TO263 - mosfet
pins: 1, 2, 3

## MOSFET_N_RUM001L02T2CL
designator Q?  Supplier Part Number 1: RUM001L02T2CLCT-ND
N-Channel 20V 100mA _Ta_ 150mW _Ta_ Surface Mount VMT3; Value: RUM001L02T2CL; MF: Rohm; SnapEDA_Link: https://www.snapeda.com/parts/RUM001L02T2CL/Rohm/view-part/531428/?ref=snap; Digi-Key_Part_Number: RUM001L02T2CLCT-ND; Package: SOT-723 Rohm; MP: RUM001L02T2CL; Supplier 1: Digi-Key; Link: https://www.digikey.com/es/products/detail/RUM001L02T2CL/RUM001L02T2CLCT-ND/4571412?utm_campaign=buynow&utm_medium=aggregator&curr=usd&utm_source=octopart; ComponentLink1Description: MOSFET N-CH 20V 100MA VMT3; ComponentLink1URL: https://www.digikey.com/es/products/detail/rohm-semiconductor/RUM001L02T2CL/4004581?s=N4IgTCBcDaIEoFUCyAGFBGAMisAVMAwpiALoC%2BQA
footprint SOTFL3P40_120X120X55L30X32N
pins: 1 G, 2 S, 3 D

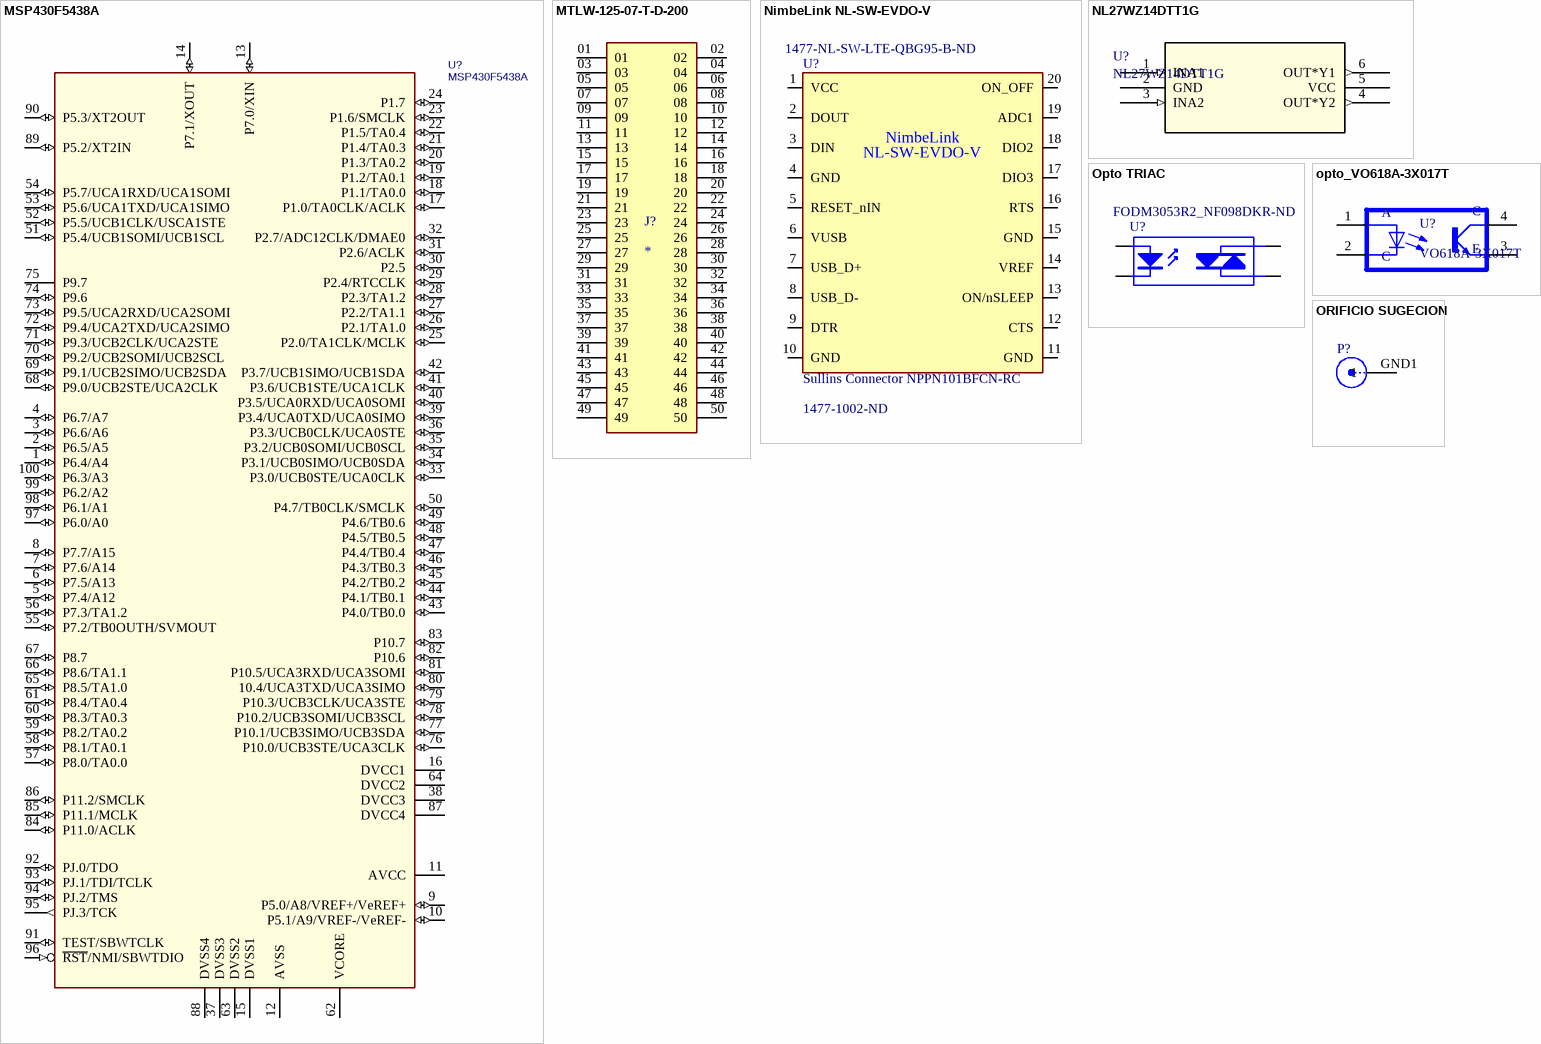
[diagram p5: symbols MSP430F5438A to ORIFICIO SUGECION]

## MSP430F5438A
designator U?
Value: MSP430F5438A; Supplier 1: Digi-Key; Supplier Part Number 1: 296-30513-5-ND
footprint QUAD.50M/100/WG16.00_VQFP100
footprint QUAD.50M/100/WG16.00_VQFP100
pins: 1 P6.4/A4 (io), 2 P6.5/A5 (io), 3 P6.6/A6 (io), 4 P6.7/A7 (io), 5 P7.4/A12 (io), 6 P7.5/A13 (io), 7 P7.6/A14 (io), 8 P7.7/A15 (io), 9 P5.0/A8/VREF+/VeREF+ (io), 10 P5.1/A9/VREF-/VeREF- (io), 11 AVCC (power), 12 AVSS (power), 13 P7.0/XIN (io), 14 P7.1/XOUT (io), 15 DVSS1 (power), 16 DVCC1 (power), 17 P1.0/TA0CLK/ACLK (io), 18 P1.1/TA0.0 (io), 19 P1.2/TA0.1 (io), 20 P1.3/TA0.2 (io), 21 P1.4/TA0.3 (io), 22 P1.5/TA0.4 (io), 23 P1.6/SMCLK (io), 24 P1.7 (io), 25 P2.0/TA1CLK/MCLK (io), 26 P2.1/TA1.0 (io), 27 P2.2/TA1.1 (io), 28 P2.3/TA1.2 (io), 29 P2.4/RTCCLK (io), 30 P2.5 (io), 31 P2.6/ACLK (io), 32 P2.7/ADC12CLK/DMAE0 (io), 33 P3.0/UCB0STE/UCA0CLK (io), 34 P3.1/UCB0SIMO/UCB0SDA (io), 35 P3.2/UCB0SOMI/UCB0SCL (io), 36 P3.3/UCB0CLK/UCA0STE (io), 37 DVSS3 (power), 38 DVCC3 (power), 39 P3.4/UCA0TXD/UCA0SIMO (io), 40 P3.5/UCA0RXD/UCA0SOMI (io), 41 P3.6/UCB1STE/UCA1CLK (io), 42 P3.7/UCB1SIMO/UCB1SDA (io), 43 P4.0/TB0.0 (io), 44 P4.1/TB0.1 (io), 45 P4.2/TB0.2 (io), 46 P4.3/TB0.3 (io), 47 P4.4/TB0.4 (io), 48 P4.5/TB0.5 (io), 49 P4.6/TB0.6 (io), 50 P4.7/TB0CLK/SMCLK (io), 51 P5.4/UCB1SOMI/UCB1SCL (io), 52 P5.5/UCB1CLK/USCA1STE (io), 53 P5.6/UCA1TXD/UCA1SIMO (io), 54 P5.7/UCA1RXD/UCA1SOMI (io), 55 P7.2/TB0OUTH/SVMOUT (io), 56 P7.3/TA1.2 (io), 57 P8.0/TA0.0 (io), 58 P8.1/TA0.1 (io), 59 P8.2/TA0.2 (io), 60 P8.3/TA0.3 (io), 61 P8.4/TA0.4 (io), 62 VCORE (power), 63 DVSS2 (power), 64 DVCC2 (power), 65 P8.5/TA1.0 (io), 66 P8.6/TA1.1 (io), 67 P8.7 (io), 68 P9.0/UCB2STE/UCA2CLK (io), 69 P9.1/UCB2SIMO/UCB2SDA (io), 70 P9.2/UCB2SOMI/UCB2SCL (io), 71 P9.3/UCB2CLK/UCA2STE (io), 72 P9.4/UCA2TXD/UCA2SIMO (io), 73 P9.5/UCA2RXD/UCA2SOMI (io), 74 P9.6 (io), 75 P9.7, 76 P10.0/UCB3STE/UCA3CLK (io), 77 P10.1/UCB3SIMO/UCB3SDA (io), 78 P10.2/UCB3SOMI/UCB3SCL (io), 79 P10.3/UCB3CLK/UCA3STE (io), 80 10.4/UCA3TXD/UCA3SIMO (io), 81 P10.5/UCA3RXD/UCA3SOMI (io), 82 P10.6 (io), 83 P10.7 (io), 84 P11.0/ACLK (io), 85 P11.1/MCLK (io), 86 P11.2/SMCLK (io), 87 DVCC4 (power), 88 DVSS4 (power), 89 P5.2/XT2IN (io), 90 P5.3/XT2OUT (io), 91 TEST/SBWTCLK (io), 92 PJ.0/TDO (io), 93 PJ.1/TDI/TCLK (io), 94 PJ.2/TMS (io), 95 PJ.3/TCK (out), 96 ~{RST}/NMI/SBWTDIO (in), 97 P6.0/A0 (io), 98 P6.1/A1 (io), 99 P6.2/A2 (io), 100 P6.3/A3 (io)

## MTLW-125-07-T-D-200
designator J?
MP: MTLW-125-07-T-D-200; Price: None; Availability: Unavailable; Value: *; Package: None
footprint SAMTEC_MTLW-125-07-T-D-200
pins: 01, 02, 03, 04, 05, 06, 07, 08, 09, 10, 11, 12, 13, 14, 15, 16, 17, 18, 19, 20, 21, 22, 23, 24, 25, 26, 27, 28, 29, 30, 31, 32, 33, 34, 35, 36, 37, 38, 39, 40, 41, 42, 43, 44, 45, 46, 47, 48, 49, 50

## NimbeLink NL-SW-EVDO-V
designator U?, comment Sullins Connector NPPN101BFCN-RC  Supplier Part Number 1: 1477-1002-ND  Supplier Part Number 2: 1477-NL-SW-LTE-QBG95-B-ND
Celular, navegación 4G LTE CAT M1/NB-IoT (global) Módulos de transceptor RF 850MHz, 900MHz, 1.8GHz, 1.9GHz Antena no incluida, U.FL Orificio pasante; Value: Sullins Connector NPPN101BFCN-RC; Supplier 1: Digi-Key; Supplier 2: Digi-Key; ComponentLink1Description: NL-SW-LTE-QBG95-B; ComponentLink1URL: https://www.digikey.com/es/products/detail/nimbelink-llc/NL-SW-LTE-QBG95-B/13930379; Link: https://www.digikey.com/es/products/detail/nimbelink-llc/NL-SW-LTE-QBG95-B/13930379; Digi-Key_Part_Number: 1477-NL-SW-LTE-QBG95-B-ND
footprint NL-SW-EVDO-V, Cell module (3M, 950510-6102-AR connector)
pins: 1 VCC (power), 2 DOUT, 3 DIN, 4 GND (power), 5 RESET_nIN, 6 VUSB, 7 USB_D+, 8 USB_D-, 9 DTR, 10 GND (power), 11 GND (power), 12 CTS, 13 ON/nSLEEP, 14 VREF, 15 GND (power), 16 RTS, 17 DIO3, 18 DIO2, 19 ADC1, 20 ON_OFF
text: NimbeLink; NL-SW-EVDO-V

## NL27WZ14DTT1G
designator U?
No Description Available; Mfr_Name: ON Semiconductor; Copyright: Copyright (C) 2021 Ultra Librarian. All rights reserved.; Manufacturer_Part_Number: NL27WZ14DTT1G; Digi-Key_Part_Number_1: 2156-NL27WZ14DTT1G-OS-ND; Digi-Key_Part_Number_2: =NL27WZ14DTT1G; Digi-Key_Part_Number_3: NL27WZ14DTT1GOSCT-ND; Digi-Key_Part_Number_4: NL27WZ14DTT1GOSDKR-ND; Digi-Key_Part_Number_5: NL27WZ14DTT1GOSTR-ND; RefDes: RefDes; Type: DEV
footprint SOT95P275X110-6N
pins: 1 INA1 (in), 2 GND (power), 3 INA2 (in), 4 OUT*Y2 (out), 5 VCC (power), 6 OUT*Y1 (out)

## Opto TRIAC
designator U?  Supplier Part Number 1: FODM3053R2_NF098DKR-ND
Opto-Triac; Manufacturer: ON Semiconductor / Fairchild; Manufacturer Part Number: FODM3053R2_NF098; Output Current: 70mA; Reverse Breakdown Voltage: 3V; Number of Channels: 1; Nominal Input Voltage: 1.2V; Max Input Voltage: 1.5V; Forward Current: 60mA; Max Power Dissipation: 300mW; Max Output Voltage: 600V; Isolation Voltage: 3.75kV; Hold Current: 300uA; Approvals: UR; Published: 24-Mar-1999; LatestRevisionDate: 17-Jul-2002; LatestRevisionNote: Re-released for DXP Platform.; PackageReference: NPSIP4A; Publisher: Altium Limited; PackageDescription: SIP; 4 Leads; Body 10 x 11.5 x 7.5 mm (typ); Pitch 2.54 mm; Supplier 1: Digi-Key; Stock 1: 0; Mount: Surface Mount; Case/Package: SMD/SMT; Number of Pins: 4; Weight: 0.155g; Contact Plating: Tin,Matte; Min Operating Temperature: -40°C; Max Operating Temperature: 100°C; Package Quantity: 1; Packaging: Tape and Reel; Forward Voltage: 1.2V; Max Output Current: 70mA; RMS Current (Irms): 70mA; Number of Elements: 1; Power Dissipation: 300mW; Input Current: 60mA; Output Voltage: 600V; Radiation Hardening: No; REACH SVHC: No SVHC; Lead Free: Lead Free; ComponentLink1URL: https://www.verical.com/server-webapp/html/getDatasheet?partID=131175&src-supplier=Verical; ComponentLink1Description: https://www.verical.com/server-webapp/html/getDatasheet?partID=131175&src-supplier=Verical; ComponentLink2URL: https://www.fairchildsemi.com/datasheets/FO/FODM3022_NF098.pdf?src-supplier=Avnet+Europe; ComponentLink2Description: https://www.fairchildsemi.com/datasheets/FO/FODM3022_NF098.pdf?src-supplier=Avnet+Europe; ComponentLink3URL: http://www.farnell.com/datasheets/2041448.pdf?src-supplier=Element14; ComponentLink3Description: http://www.farnell.com/datasheets/2041448.pdf?src-supplier=Element14
footprint SOP127P695X210-4N
pins: 1, 2, 3, 4

## opto_VO618A-3X017T
designator U?, comment VO618A-3X017T
Optoisolator Transistor Output 5300Vrms 1 Channel 4-SMD; MF: Vishay Semiconductor; Digi-Key_Part_Number: VO618A-3X017TCT-ND; Package: SMD-4 Vishay Semiconductor; Value: *; MP: VO618A-3X017T; ComponentLink1Description: VO618A-3X017T; ComponentLink1URL: https://www.digikey.com/en/products/detail/vishay-semiconductor-opto-division/VO618A-3X017T/2811968; Link: https://www.digikey.com/en/products/detail/vishay-semiconductor-opto-division/VO618A-3X017T/2811968
footprint SOIC254P1016X440-4N
pins: 1 A, 2 C, 3 E, 4 CO

## ORIFICIO SUGECION
designator P?
SMB Straight Connector; LatestRevisionDate: 17-Jul-2002; LatestRevisionNote: Re-released for DXP Platform.; Publisher: Altium Limited
signal-integrity model Connector
footprint ORIFICIO_SUGECION (Connector; SMB Straight)
pins: GND1 1

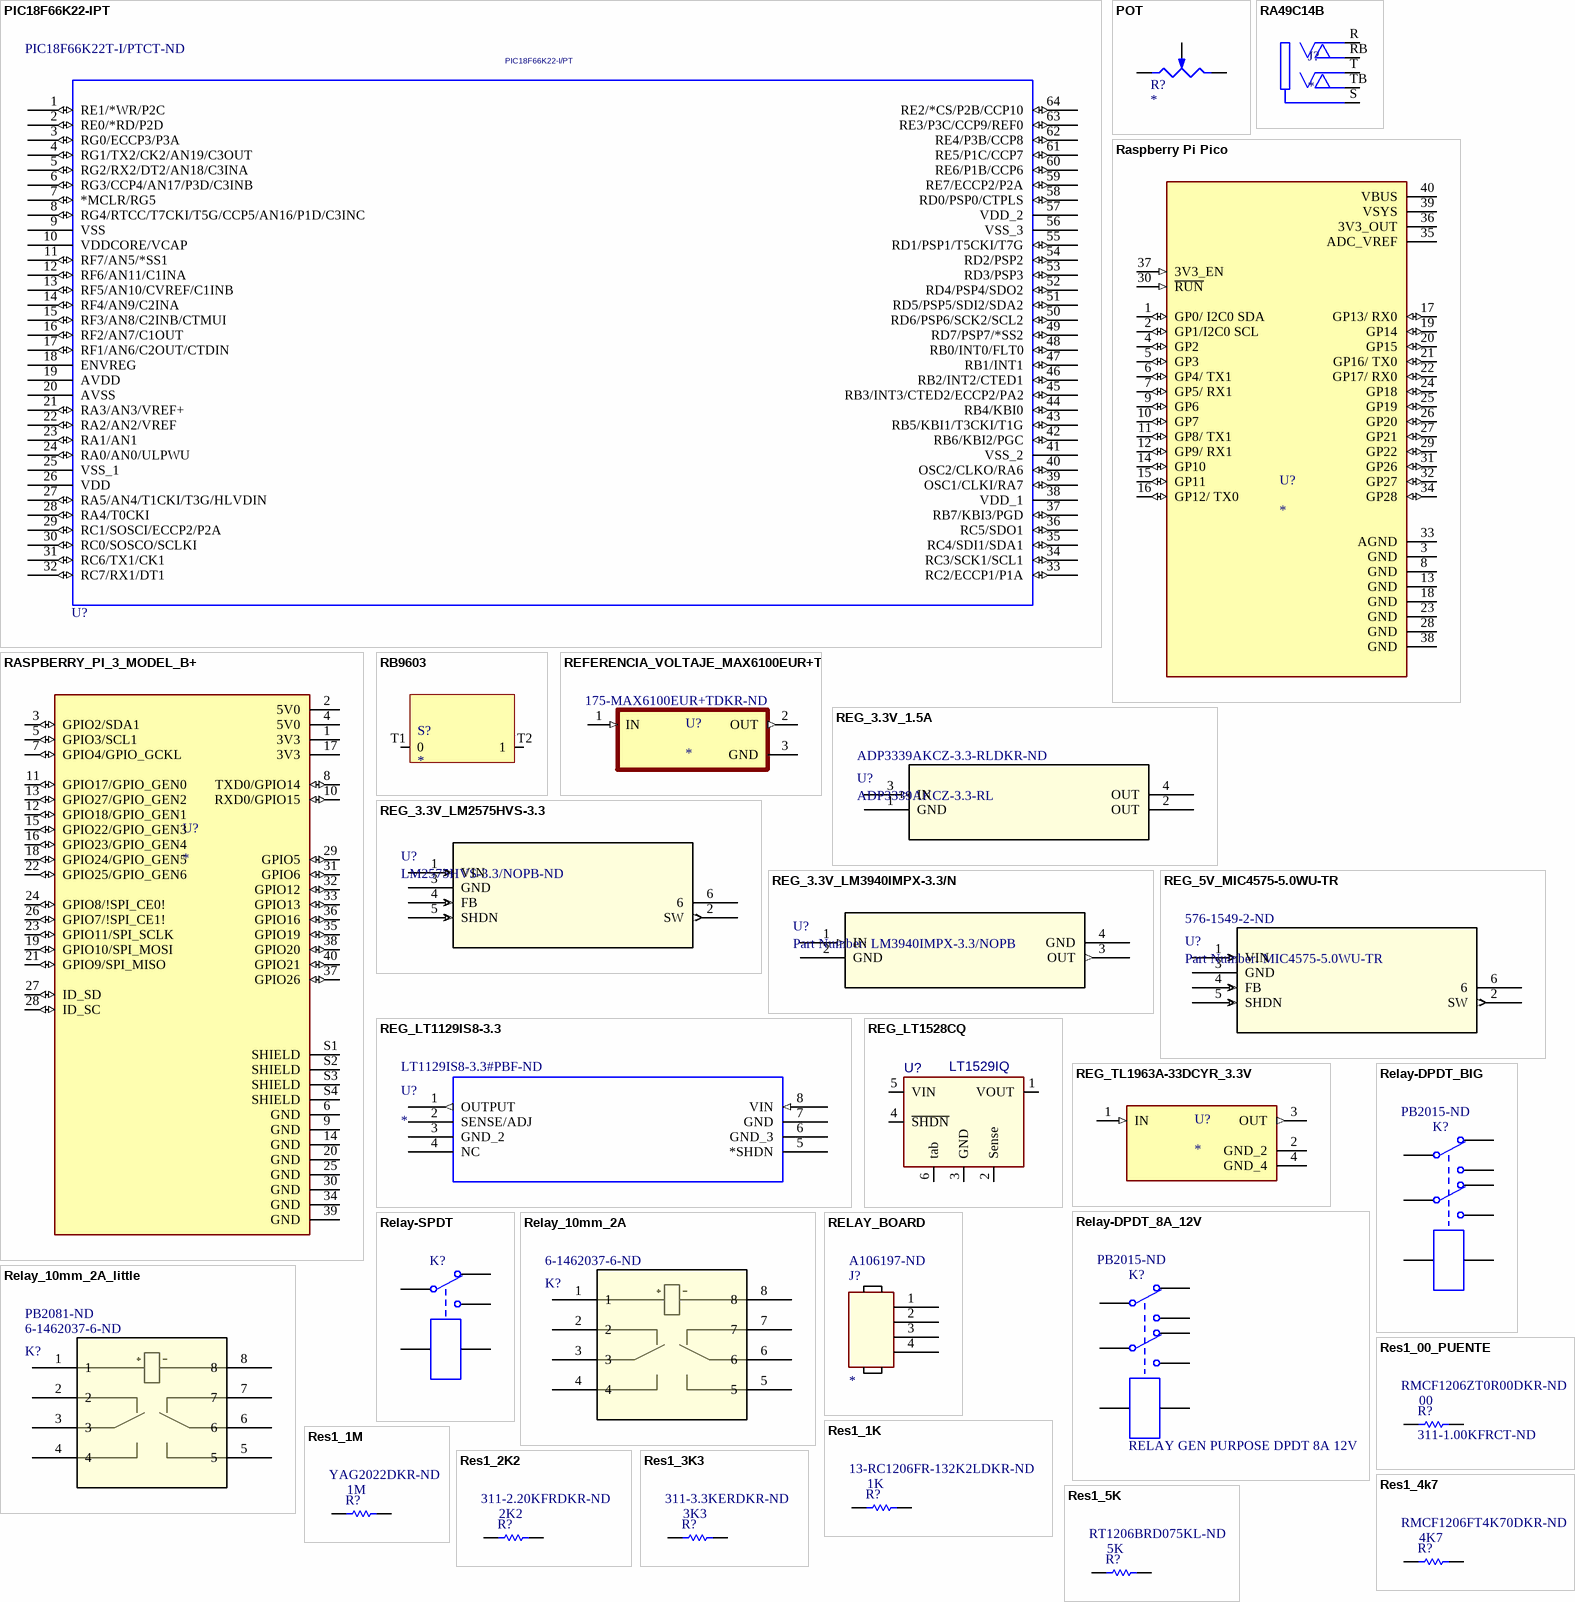
[diagram p6: symbols PIC18F66K22-IPT to Res1_5K]

## PIC18F66K22-IPT
designator U?, comment < Value >: PIC18F66K22-I/PT  Supplier Part Number 1: PIC18F66K22T-I/PTCT-ND  (hidden comment: Value)
Manufacturer Part Number: PIC18F66K22T-I/PT; OriginalSymbolOrigin: (30000,20000); Vendor: Microchip; Built_By: EMA_UL_Team; DeviceNumbering: Alpha; DeviceDesignator: A; DevicesInPackage: 1; IsHeterogeneous: False; RAM Size: 4KB; Max Power Dissipation: 1W; Interface: I2C,SPI,UART,USART,LIN; Number of Timers/Counters: 11; Number of ADC Channels: 16; Frequency: 64MHz; Max Supply Voltage: 5.5V; Min Supply Voltage: 1.8V; Data Bus Width: 8b; Number of Programmable I/O: 53; Number of SPI Channels: 2; Watchdog Timer: Yes; Memory Type: FLASH; Memory Size: 64KB; Core Architecture: PIC; Manufacturer_Part_Number: PIC18F66K22-I/PT; DevicesInView: 1; PackageName: PIC18F66K22-I/PT; Supplier 1: Digi-Key; Manufacturer: Microchip; Stock 1: 890; Pricing 1: 1=3.77, 25=3.45, 100=3.13 (USD); Mount: Surface Mount; Case/Package: TQFP; Number of Pins: 64; Min Operating Temperature: -40°C; Max Operating Temperature: 85°C; Packaging: Tape and Reel; Max Frequency: 64MHz; Number of I2C Channels: 2; Length: 10mm; Height: 1.05mm; Width: 10mm; Radiation Hardening: No; ComponentLink1URL: http://ww1.microchip.com/downloads/en/DeviceDoc/39960d.pdf?src-supplier=Avnet; ComponentLink1Description: http://ww1.microchip.com/downloads/en/DeviceDoc/39960d.pdf?src-supplier=Avnet; ComponentLink2URL: http://www.microchip.com/mymicrochip/filehandler.aspx?ddocname=en548493&src-supplier=Digi-Key; ComponentLink2Description: http://www.microchip.com/mymicrochip/filehandler.aspx?ddocname=en548493&src-supplier=Digi-Key
footprint QFP50P1200X1200X120-64N
pins: 1 RE1/*WR/P2C (io), 2 RE0/*RD/P2D (io), 3 RG0/ECCP3/P3A (io), 4 RG1/TX2/CK2/AN19/C3OUT (io), 5 RG2/RX2/DT2/AN18/C3INA (io), 6 RG3/CCP4/AN17/P3D/C3INB (io), 7 *MCLR/RG5 (io), 8 RG4/RTCC/T7CKI/T5G/CCP5/AN16/P1D/C3INC (io), 9 VSS (power), 10 VDDCORE/VCAP (power), 11 RF7/AN5/*SS1 (io), 12 RF6/AN11/C1INA (io), 13 RF5/AN10/CVREF/C1INB (io), 14 RF4/AN9/C2INA (io), 15 RF3/AN8/C2INB/CTMUI (io), 16 RF2/AN7/C1OUT (io), 17 RF1/AN6/C2OUT/CTDIN (io), 18 ENVREG (power), 19 AVDD (power), 20 AVSS (power), 21 RA3/AN3/VREF+ (io), 22 RA2/AN2/VREF (io), 23 RA1/AN1 (io), 24 RA0/AN0/ULPWU (io), 25 VSS_1 (power), 26 VDD (power), 27 RA5/AN4/T1CKI/T3G/HLVDIN (io), 28 RA4/T0CKI (io), 29 RC1/SOSCI/ECCP2/P2A (io), 30 RC0/SOSCO/SCLKI (io), 31 RC6/TX1/CK1 (io), 32 RC7/RX1/DT1 (io), 33 RC2/ECCP1/P1A (io), 34 RC3/SCK1/SCL1 (io), 35 RC4/SDI1/SDA1 (io), 36 RC5/SDO1 (io), 37 RB7/KBI3/PGD (io), 38 VDD_1 (power), 39 OSC1/CLKI/RA7 (io), 40 OSC2/CLKO/RA6 (io), 41 VSS_2 (power), 42 RB6/KBI2/PGC (io), 43 RB5/KBI1/T3CKI/T1G (io), 44 RB4/KBI0 (io), 45 RB3/INT3/CTED2/ECCP2/PA2 (io), 46 RB2/INT2/CTED1 (io), 47 RB1/INT1 (io), 48 RB0/INT0/FLT0 (io), 49 RD7/PSP7/*SS2 (io), 50 RD6/PSP6/SCK2/SCL2 (io), 51 RD5/PSP5/SDI2/SDA2 (io), 52 RD4/PSP4/SDO2 (io), 53 RD3/PSP3 (io), 54 RD2/PSP2 (io), 55 RD1/PSP1/T5CKI/T7G (io), 56 VSS_3 (power), 57 VDD_2 (power), 58 RD0/PSP0/CTPLS (io), 59 RE7/ECCP2/P2A (io), 60 RE6/P1B/CCP6 (io), 61 RE5/P1C/CCP7 (io), 62 RE4/P3B/CCP8 (io), 63 RE3/P3C/CCP9/REF0 (io), 64 RE2/*CS/P2B/CCP10 (io)

## POT
designator R?
footprint POT
pins: 1, 2, 3

## RA49C14B
designator J?
Conn 1/4" Phone Jack F 3 POS 7.62mm Solder RA Thru-Hole 6 Terminal 1 Port; MP: RA49C14B; Package: None; Price: None; Value: *; Availability: Unavailable
footprint SWITCHCRAFT_RA49C14B
pins: R, RB, S, T, TB

## Raspberry Pi Pico
designator U?
footprint RaspberryPico_Header
pins: 1 GP0/ I2C0 SDA (io), 2 GP1/I2C0 SCL (io), 3 GND (power), 4 GP2 (io), 5 GP3 (io), 6 GP4/ TX1 (io), 7 GP5/ RX1 (io), 8 GND (power), 9 GP6 (io), 10 GP7 (io), 11 GP8/ TX1 (io), 12 GP9/ RX1 (io), 13 GND (power), 14 GP10 (io), 15 GP11 (io), 16 GP12/ TX0 (io), 17  GP13/ RX0 (io), 18 GND (power), 19 GP14 (io), 20 GP15 (io), 21 GP16/ TX0 (io), 22 GP17/ RX0 (io), 23 GND (power), 24 GP18 (io), 25 GP19 (io), 26 GP20 (io), 27 GP21 (io), 28 GND (power), 29 GP22 (io), 30 ~{RUN} (in), 31 GP26 (io), 32 GP27 (io), 33 AGND (power), 34 GP28 (io), 35 ADC_VREF (power), 36 3V3_OUT (power), 37 3V3_EN (in), 38 GND (power), 39 VSYS (power), 40 VBUS (power)

## RASPBERRY_PI_3_MODEL_B+
designator U?
BCM2837B0 Raspberry Pi 3 Model B+ - ARMÂ® CortexÂ®-A53, VideoCore MPU Embedded Evaluation Board; MP: RASPBERRY PI 3 MODEL B+; SnapEDA_Link: https://www.snapeda.com/parts/RASPBERRY%20PI%203%20MODEL%20B+/Raspberry%20Pi/view-part/4299836/?ref=snap; Package: Raspberry Pi; MF: Raspberry Pi; Value: *; Digi-Key_Part_Number: 1690-1025-ND; Check_prices: https://www.snapeda.com/parts/RASPBERRY%20PI%203%20MODEL%20B+/Raspberry%20Pi/view-part/4299836/?ref=eda
footprint MODULE_RASPBERRY_PI_3_MODEL_B+
pins: 1 3V3 (power), 2 5V0 (power), 3 GPIO2/SDA1 (io), 4 5V0 (power), 5 GPIO3/SCL1 (io), 6 GND (power), 7 GPIO4/GPIO_GCKL (io), 8 TXD0/GPIO14 (io), 9 GND (power), 10 RXD0/GPIO15 (io), 11 GPIO17/GPIO_GEN0 (io), 12 GPIO18/GPIO_GEN1 (io), 13 GPIO27/GPIO_GEN2 (io), 14 GND (power), 15 GPIO22/GPIO_GEN3 (io), 16 GPIO23/GPIO_GEN4 (io), 17 3V3 (power), 18 GPIO24/GPIO_GEN5 (io), 19 GPIO10/SPI_MOSI (io), 20 GND (power), 21 GPIO9/SPI_MISO (io), 22 GPIO25/GPIO_GEN6 (io), 23 GPIO11/SPI_SCLK (io), 24 GPIO8/!SPI_CE0! (io), 25 GND (power), 26 GPIO7/!SPI_CE1! (io), 27 ID_SD (io), 28 ID_SC (io), 29 GPIO5 (io), 30 GND (power), 31 GPIO6 (io), 32 GPIO12 (io), 33 GPIO13 (io), 34 GND (power), 35 GPIO19 (io), 36 GPIO16 (io), 37 GPIO26 (io), 38 GPIO20 (io), 39 GND (power), 40 GPIO21 (io), S1 SHIELD (power), S2 SHIELD (power), S3 SHIELD (power), S4 SHIELD (power)

## RB9603
designator S?
footprint RB9603 (Modulo Satelital)
pins: T1 0, T2 1

## REFERENCIA_VOLTAJE_MAX6100EUR+T
designator U?  Supplier Part Number 1: 175-MAX6100EUR+TDKR-ND
Serie Referencia de voltaje IC ±0.4% SOT-23-3; Digi_Key_Part_Number: 175-MAX6100EUR+TCT-ND; MF: {'manufacturer': u'Analog Devices'}; Value: MAX6100EUR; MP: MAX6100EUR+T; Package: None; Availability: Unavailable; Price: None; Supplier 1: Digi-Key; Link: https://www.digikey.com/es/products/detail/MAX6100EUR%2BT/175-MAX6100EUR%2BTDKR-ND/12144231?utm_campaign=buynow&utm_medium=aggregator&curr=usd&utm_source=octopart; ComponentLink1Description: IC VREF SERIES 0.4% SOT23-3; ComponentLink1URL: https://www.digikey.com/es/products/detail/analog-devices-inc-maxim-integrated/max6106eur-t/1518210
footprint SOT95P237X112-3N
pins: 1 IN (in), 2 OUT (out), 3 GND (power)